# EAGLE library part IAUC60N04S6L045HATMA1 (library IAUC60N04S6L045HATMA1)
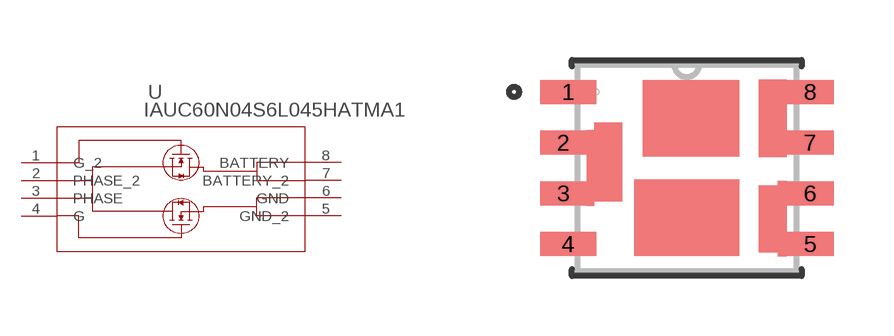
[diagram p0: symbol with the pads of PG-TDSON-8-57; footprint PG-TDSON-8-57]

Designator prefix U

## IAUC60N04S6L045HATMA1PG-TDSON-8-57 (COPYRIGHT: Copyright (C) 2024 Ultra Librarian. All rights reserved.; MANUFACTURER_PART_NUMBER: IAUC60N04S6L045HATMA1; MFR_NAME: Infineon)  [PG-TDSON-8-57]
1  G_2  pas
2  PHASE_2  pas
3  PHASE  pas
4  G  pas
5  GND_2  pas
6  GND  pas
7  BATTERY_2  pas
8  BATTERY  pas

## Footprint PG-TDSON-8-57 (pad centres in mm)
smd 1.4 x 0.6: 1 -2.97,1.905; 4 -2.97,-1.905
smd 1.17 x 0.6: 2 -3.085,0.635; 3 -3.085,-0.635; 5 3.085,-1.905; 6 3.085,-0.635; 7 3.085,0.635; 8 3.085,1.905